# Altium footprint library LA55-P.PcbLib: 1 footprints
Each footprint in its own frame and in the unit in brackets; x right, y up, seen from the top. Pads: shape width x height; smd on the part's side, far side on the other; paste and mask are expansions set on the pad; w line width, h text height; cw(c..) or ccw(c..) is an arc to the next point about the centre after c.
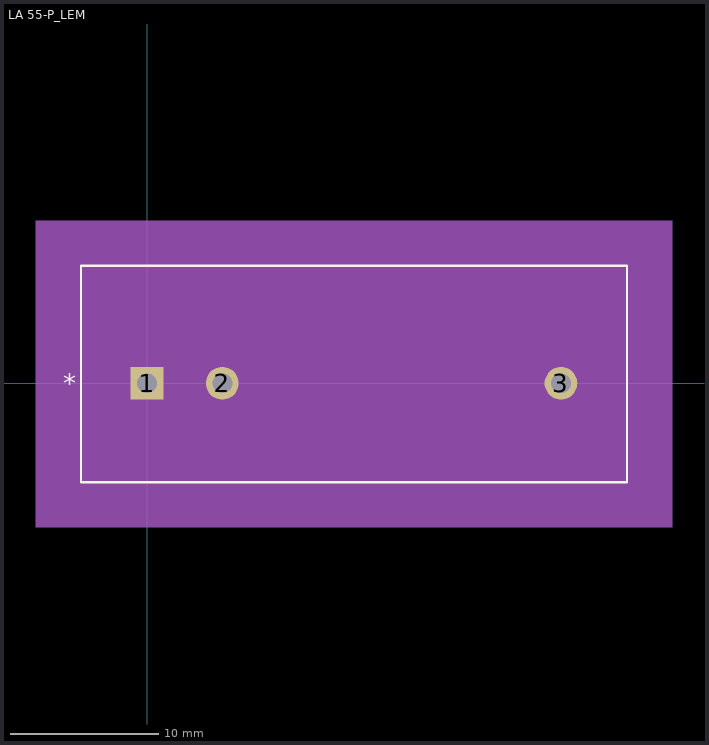
[diagram p0: the footprint, top view; thin cyan lines are the x and y axes]

## LA 55-P_LEM [mil]
pads (3):
  rect 87x87 hole 53 mask+0: 1(0,0)
  round 87 hole 53 mask+0: 2(200,0) 3(1100,0)
Top Overlay:
  lines w6: -175.5,-262.89 1275.5,-262.89 1275.5,312.11 -175.5,312.11 -175.5,-262.89
  text "*" at -223,-25 h50
Mechanical 5:
  region: 1395.5,-382.89 -295.5,-382.89 -295.5,432.11 1395.5,432.11
Mechanical 13:
  lines w1: -170.5,-257.89 1270.5,-257.89 1270.5,307.11 -170.5,307.11 -170.5,-257.89
  text "*" at -173,-25 h50
Mechanical 15:
  region: 1280.5,-267.89 -180.5,-267.89 -180.5,317.11 1280.5,317.11
  lines w6: -180.5,-267.89 -180.5,317.11 1280.5,317.11 1280.5,-267.89 -180.5,-267.89
3D body: height 10, standoff 0, extent 0,0 10,10